# EAGLE library part KAYO_USB_TYPE_B (library kxnStandard_connector)
BERG USB connector
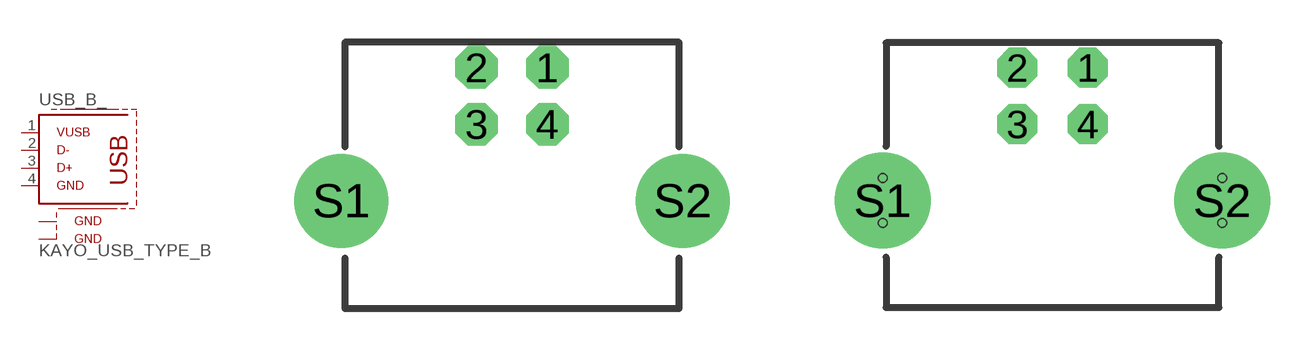
[diagram p1: symbol with the pads of USB_TYPE_B; footprints USB_TYPE_B, USB_TYPE_B_PROTO]

Designator prefix USB_B_

## KAYO_USB_TYPE_B (CC_SHOP: CongCo; OC_FARNELL: unknown; OC_NEWARK: unknown)  [USB_TYPE_B]
1  1  pas
2  2  pas
3  3  pas
4  4  pas
S1  S1  pas
S2  S2  pas

## KAYO_USB_TYPE_B_PROTOTYPE (CC_SHOP: CongCo)  [USB_TYPE_B_PROTO]
Pads as for USB_TYPE_B

## KAYO_USB_TYPE_B_NO_DIMENSION (CC_SHOP: CongCo)  [USB_TYPE_B_2]
Pads as for USB_TYPE_B

## KAYO_USB_TYPE_B_FULL (CC_SHOP: CongCo)  [USB_TYPE_B_FULL_DIMENSION]
Pads as for USB_TYPE_B

## Footprint USB_TYPE_B (pad centres in mm)
USB connector with shield
drill 0.9 pad 1.5 octagon: 1 1.25,4.71; 2 -1.25,4.71; 3 -1.25,2.71; 4 1.25,2.71
drill 2.3 pad 2.9: S1 -6.02,0; S2 6.02,0

## Footprint USB_TYPE_B_PROTO (pad centres in mm)
drill 0.3 pad 1.422 octagon: 1 1.25,4.71; 2 -1.25,4.71; 3 -1.25,2.71; 4 1.25,2.71
drill 0.3 pad 3.4: S1 -6.02,0; S2 6.02,0
hole 0.3 at -6.02,0.8
hole 0.3 at -6.02,-0.8
hole 0.3 at 6.02,0.8
hole 0.3 at 6.02,-0.8

## Footprint USB_TYPE_B_2 (pad centres in mm)
drill 0.9 pad 1.5 octagon: 1 1.25,4.71; 2 -1.25,4.71; 3 -1.25,2.71; 4 1.25,2.71
drill 2.3 pad 2.9: S1 -6.02,0; S2 6.02,0

## Footprint USB_TYPE_B_FULL_DIMENSION (pad centres in mm)
drill 0.9 pad 1.5 octagon: 1 1.25,4.71; 2 -1.25,4.71; 3 -1.25,2.71; 4 1.25,2.71
drill 2.3 pad 2.9: S1 -6.02,0; S2 6.02,0